# EAGLE library part V__VFD_BJ044GK (library ++Bedrahtet)
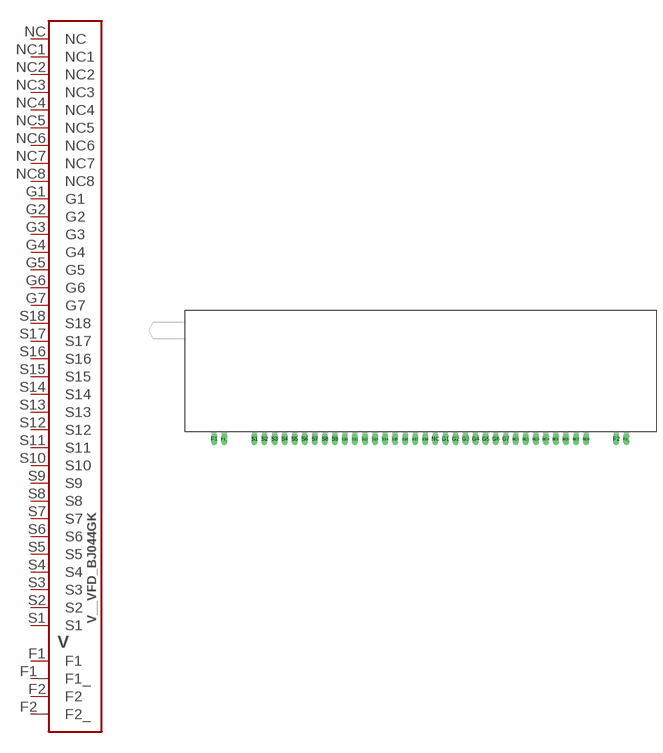
[diagram p36: symbol with the pads of VFD_BJ044GK; footprint VFD_BJ044GK]

Designator prefix V

## V__VFD_BJ044GK  [VFD_BJ044GK]
F1  F1
F1_  F1_
F2  F2
F2_  F2_
G1  G1
G2  G2
G3  G3
G4  G4
G5  G5
G6  G6
G7  G7
NC  NC
NC1  NC1
NC2  NC2
NC3  NC3
NC4  NC4
NC5  NC5
NC6  NC6
NC7  NC7
NC8  NC8
S1  S1
S2  S2
S3  S3
S4  S4
S5  S5
S6  S6
S7  S7
S8  S8
S9  S9
S10  S10
S11  S11
S12  S12
S13  S13
S14  S14
S15  S15
S16  S16
S17  S17
S18  S18

## Footprint VFD_BJ044GK (pad centres in mm)
drill 1 long: F1 0,0; F1_ 2.54,0; F2 101.6,0; F2_ 104.14,0; G1 58.42,0; G2 60.96,0; G3 63.5,0; G4 66.04,0; G5 68.58,0; G6 71.12,0; G7 73.66,0; NC 55.88,0; NC1 76.2,0; NC2 78.74,0; NC3 81.28,0; NC4 83.82,0; NC5 86.36,0; NC6 88.9,0; NC7 91.44,0; NC8 93.98,0; S1 10.16,0; S2 12.7,0; S3 15.24,0; S4 17.78,0; S5 20.32,0; S6 22.86,0; S7 25.4,0; S8 27.94,0; S9 30.48,0; S10 33.02,0; S11 35.56,0; S12 38.1,0; S13 40.64,0; S14 43.18,0; S15 45.72,0; S16 48.26,0; S17 50.8,0; S18 53.34,0